# Altium integrated library Integrated_Library_Rotary.IntLib: 1 symbol
Pins are listed as number, name and electrical type; pins without a type are passive.

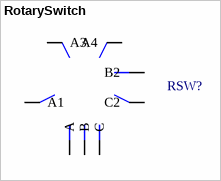
[diagram p0: symbol RotarySwitch]

## RotarySwitch
designator RSW?  (value not drawn)
footprint ROTARY_SWITCH
pins: A, A1, A3, A4, B, B2, C, C2